# EAGLE library part RT9400-POE-MODULE (library BaseApp)
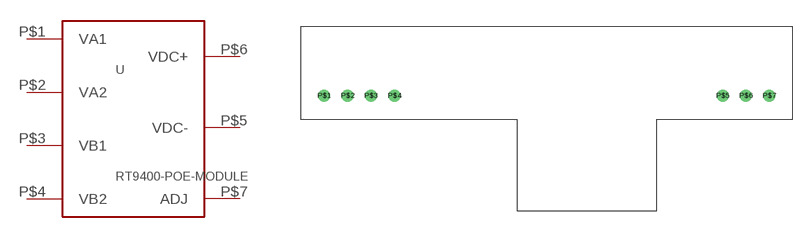
[diagram p139: symbol with the pads of RT9400_MODULE; footprint RT9400_MODULE]

Designator prefix -

## RT9400-POE-MODULE  [RT9400_MODULE]
P$1  VA1
P$2  VA2
P$3  VB1
P$4  VB2
P$5  VDC-
P$6  VDC+
P$7  ADJ

## Footprint RT9400_MODULE (pad centres in mm)
drill 0.8: P$1 0,0; P$2 2.54,0; P$3 5.08,0; P$4 7.62,0; P$5 43.22,0; P$6 45.72,0; P$7 48.26,0